# Altium schematic symbol library 410-357-B.SchLib: 1 symbol
Pins are listed as number, name and electrical type; pins without a type are passive.

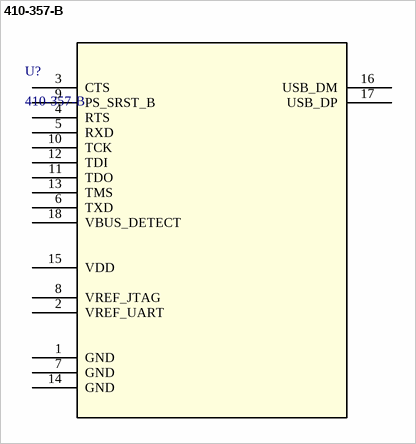
[diagram p0: symbol 410-357-B]

## 410-357-B
designator U?
Description; Manufacturer_Name: Digilent; Copyright: Copyright (C) 2026 Ultra Librarian. All rights reserved.; Manufacturer_Part_Number: 410-357-B; RefDes: RefDes; Type: Type
footprint QFN18_410-357-B_DGT
pins: 1 GND (power), 2 VREF_UART (power), 3 CTS, 4 RTS, 5 RXD, 6 TXD, 7 GND (power), 8 VREF_JTAG (power), 9 PS_SRST_B, 10 TCK, 11 TDO, 12 TDI, 13 TMS, 14 GND (power), 15 VDD (power), 16 USB_DM, 17 USB_DP, 18 VBUS_DETECT